# EAGLE library part X37-2S (library connectors)
Connector 37 pins, with 2 shield pins
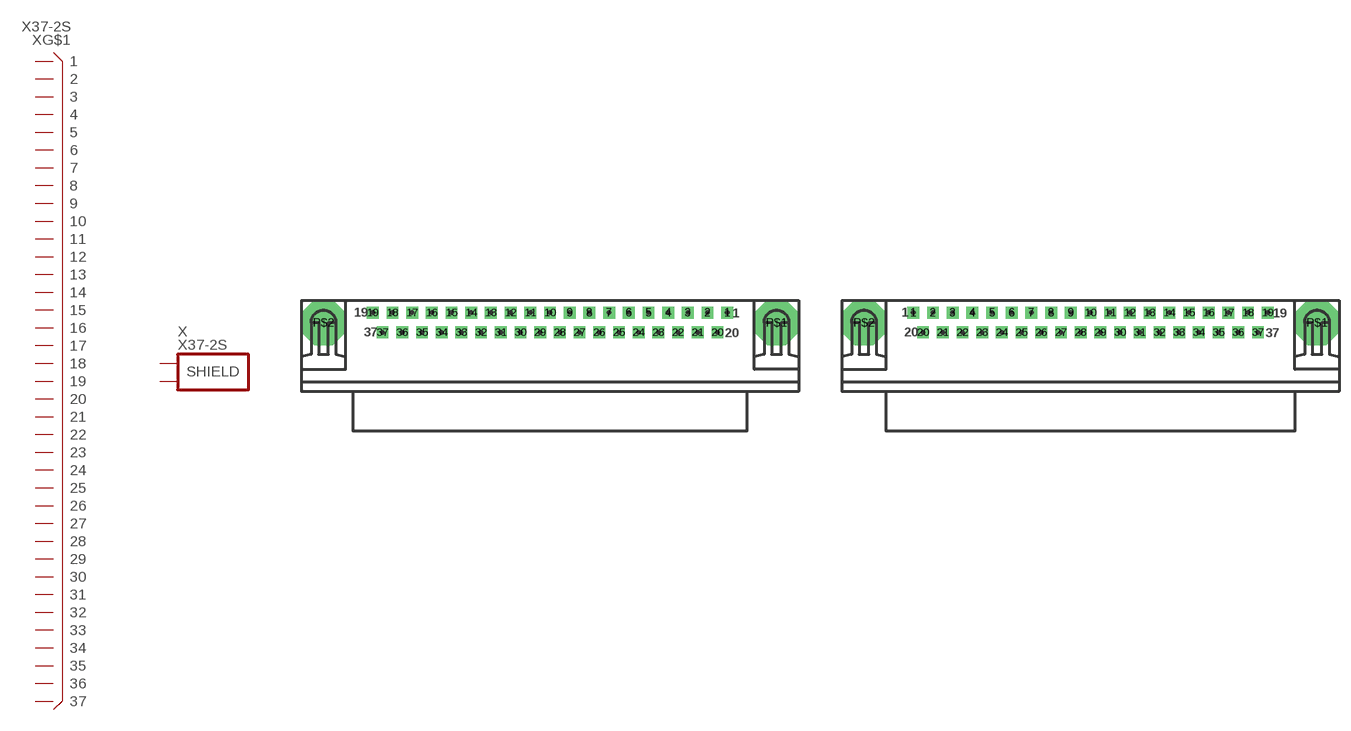
[diagram p72: symbol with the pads of X37-DSUBFEMALE1; footprints X37-DSUBFEMALE1, X37-DSUBMALE1]

Designator prefix X; gates G$1=X37 G$2=SHIELD2

## X37-2S-DFEM  [X37-DSUBFEMALE1]
1  G$1:1
2  G$1:2
3  G$1:3
4  G$1:4
5  G$1:5
6  G$1:6
7  G$1:7
8  G$1:8
9  G$1:9
10  G$1:10
11  G$1:11
12  G$1:12
13  G$1:13
14  G$1:14
15  G$1:15
16  G$1:16
17  G$1:17
18  G$1:18
19  G$1:19
20  G$1:20
21  G$1:21
22  G$1:22
23  G$1:23
24  G$1:24
25  G$1:25
26  G$1:26
27  G$1:27
28  G$1:28
29  G$1:29
30  G$1:30
31  G$1:31
32  G$1:32
33  G$1:33
34  G$1:34
35  G$1:35
36  G$1:36
37  G$1:37
P$1  G$2:S1
P$2  G$2:S2

## X37-2S-DMAL  [X37-DSUBMALE1]
Pads as for X37-DSUBFEMALE1

## Footprint X37-DSUBFEMALE1 (pad centres in mm)
D-SUB connector 37 pins, female American size, with shield soldering pads
drill 0.889 pad 1.651 square: 1 24.75,1.375; 2 22,1.375; 3 19.25,1.375; 4 16.5,1.375; 5 13.75,1.375; 6 11,1.375; 7 8.25,1.375; 8 5.5,1.375; 9 2.75,1.375; 10 0,1.375; 11 -2.75,1.375; 12 -5.5,1.375; 13 -8.25,1.375; 14 -11,1.375; 15 -13.75,1.375; 16 -16.5,1.375; 17 -19.25,1.375; 18 -22,1.375; 19 -24.75,1.375; 20 23.375,-1.375; 21 20.625,-1.375; 22 17.875,-1.375; 23 15.125,-1.375; 24 12.375,-1.375; 25 9.625,-1.375; 26 6.875,-1.375; 27 4.125,-1.375; 28 1.375,-1.375; 29 -1.375,-1.375; 30 -4.125,-1.375; 31 -6.875,-1.375; 32 -9.625,-1.375; 33 -12.375,-1.375; 34 -15.125,-1.375; 35 -17.875,-1.375; 36 -20.625,-1.375; 37 -23.375,-1.375
drill 3.175 pad 6.35 octagon: P$1 31.625,0; P$2 -31.625,0

## Footprint X37-DSUBMALE1 (pad centres in mm)
D-SUB connector 37 pins, male American size, with shield soldering pads
drill 0.889 pad 1.651 square: 1 -24.75,1.375; 2 -22,1.375; 3 -19.25,1.375; 4 -16.5,1.375; 5 -13.75,1.375; 6 -11,1.375; 7 -8.25,1.375; 8 -5.5,1.375; 9 -2.75,1.375; 10 0,1.375; 11 2.75,1.375; 12 5.5,1.375; 13 8.25,1.375; 14 11,1.375; 15 13.75,1.375; 16 16.5,1.375; 17 19.25,1.375; 18 22,1.375; 19 24.75,1.375; 20 -23.375,-1.375; 21 -20.625,-1.375; 22 -17.875,-1.375; 23 -15.125,-1.375; 24 -12.375,-1.375; 25 -9.625,-1.375; 26 -6.875,-1.375; 27 -4.125,-1.375; 28 -1.375,-1.375; 29 1.375,-1.375; 30 4.125,-1.375; 31 6.875,-1.375; 32 9.625,-1.375; 33 12.375,-1.375; 34 15.125,-1.375; 35 17.875,-1.375; 36 20.625,-1.375; 37 23.375,-1.375
drill 3.175 pad 6.35 octagon: P$1 31.625,0; P$2 -31.625,0